# EAGLE library part S25FL032P0XMFI013 (library caffeine)
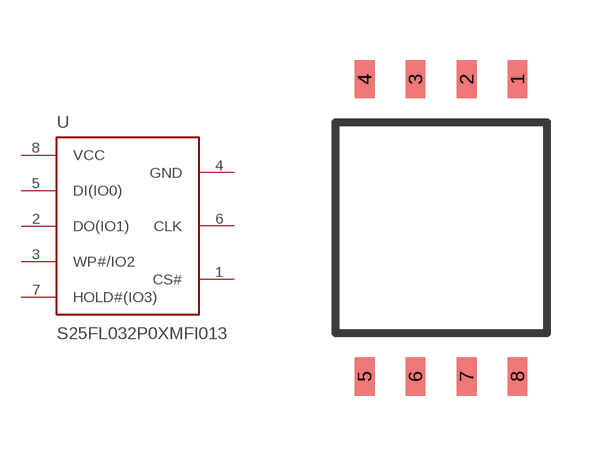
[diagram p1: symbol with the pads of SOC008; footprint SOC008]

Designator prefix -

## S25FL032P0XMFI013  [SOC008]
1  CS#
2  DO(IO1)
3  WP#/IO2
4  GND  pwr
5  DI(IO0)
6  CLK
7  HOLD#(IO3)
8  VCC  pwr

## Footprint SOC008 (pad centres in mm)
smd 0.49 x 0.96: 1 1.91,3.72; 2 0.64,3.72; 3 -0.64,3.72; 4 -1.91,3.72; 5 -1.91,-3.72; 6 -0.64,-3.72; 7 0.64,-3.72; 8 1.91,-3.72